# Altium integrated library TYPE-C-31-M-12.IntLib: 1 symbol
Pins are listed as number, name and electrical type; pins without a type are passive.

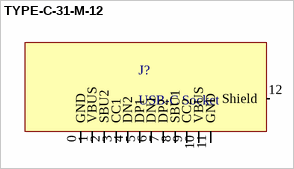
[diagram p0: symbol TYPE-C-31-M-12]

## TYPE-C-31-M-12
designator J?, comment USB-C Socket
footprint TYPE-C-31-M-12
pins: 0 GND, 1 VBUS, 2 SBU2, 3 CC1, 4 DN2, 5 DP1, 6 DN1, 7 DP2, 8 SBU1, 9 CC2, 10 VBUS, 11 GND, 12 Shield